# EAGLE library part 481RV12172100 (library Wurth_Elektronik_Electromechanic_Switch_rev16b)
WS-RPTL 20 x 20mm Rotary / Push Button Switch with integrated LED, THT version <http://katalog.we-online.de/media/images/v2/Family_WS-RPTL_20x20_Button_Switch.jpg> Details see: http://katalog.we-online.de/en/em/RPTL_20X20_THT_ROTARY_PUSH_BUTTON_SWITCH 2015 (C) Wurth Elektronik
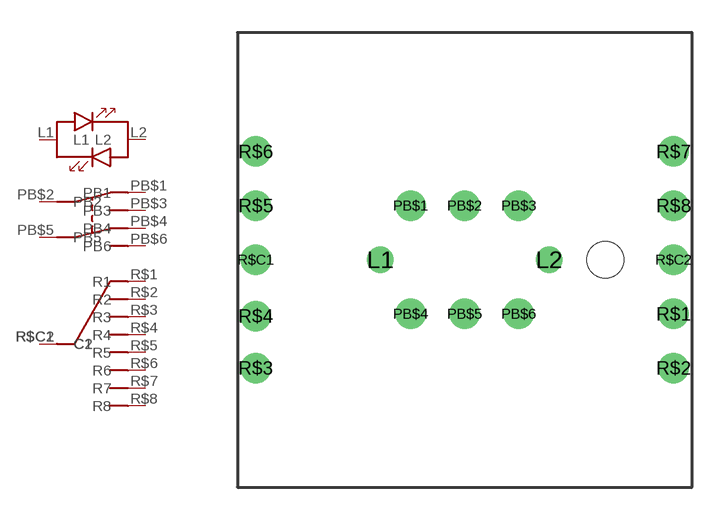
[diagram p152: symbol with the pads of 481RV12172100; footprint 481RV12172100]

Designator prefix SW

## 481RV12172100  [481RV12172100]
L1  L1  pas
L2  L2  pas
PB$1  PB1  pas
PB$2  PB2  pas
PB$3  PB3  pas
PB$4  PB4  pas
PB$5  PB5  pas
PB$6  PB6  pas
R$1  R1  pas
R$2  R2  pas
R$3  R3  pas
R$4  R4  pas
R$5  R5  pas
R$6  R6  pas
R$7  R7  pas
R$8  R8  pas
R$C1  C1  pas
R$C2  C2  pas

## Footprint 481RV12172100 (pad centres in mm)
WS-RPTL 20 x 20mm Rotary / Push Button Switch with integrated LED, THT version
drill 0.7: L1 -3.9,0; L2 3.9,0
drill 0.9: PB$1 -2.5,2.5; PB$2 0,2.5; PB$3 2.5,2.5; PB$4 -2.5,-2.5; PB$5 0,-2.5; PB$6 2.5,-2.5; R$1 9.65,-2.5; R$2 9.65,-5; R$3 -9.65,-5; R$4 -9.65,-2.6; R$5 -9.65,2.5; R$6 -9.65,5; R$7 9.65,5; R$8 9.65,2.5; R$C1 -9.65,0; R$C2 9.65,0
hole 1.7 at 6.5,0